# EAGLE library part M25P40 (library CEDTv75)
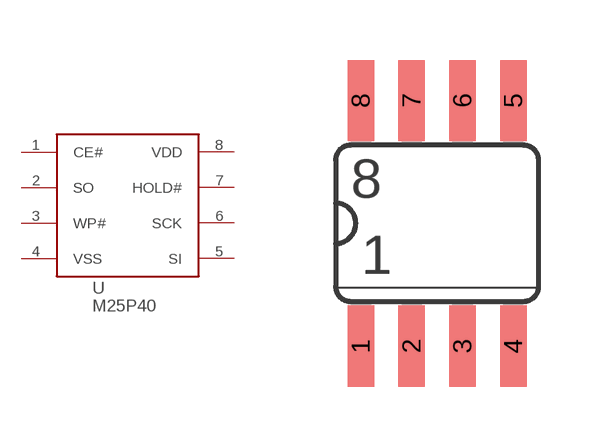
[diagram p67: symbol with the pads of SOIC08; footprint SOIC08]

Designator prefix -

## M25P40  [SOIC08]
1  CE#  pas
2  SO  pas
3  WP#  pas
4  VSS  pas
5  SI  pas
6  SCK  pas
7  HOLD#  pas
8  VDD  pas

## Footprint SOIC08 (pad centres in mm)
smd 0.66 x 2.032: 1 -1.905,-3.073; 2 -0.635,-3.073; 3 0.635,-3.073; 4 1.905,-3.073; 5 1.905,3.073; 6 0.635,3.073; 7 -0.635,3.073; 8 -1.905,3.073